# EAGLE library part IF_MK20DX128VFM5 (library mbed-HDK-MF-NXP)
CMSIS-DAP Interface : 32-bit K20 ARM Cortex M4 RISC 128KB Flash 1.8V/2.5V/3.3V 32-Pin QFN
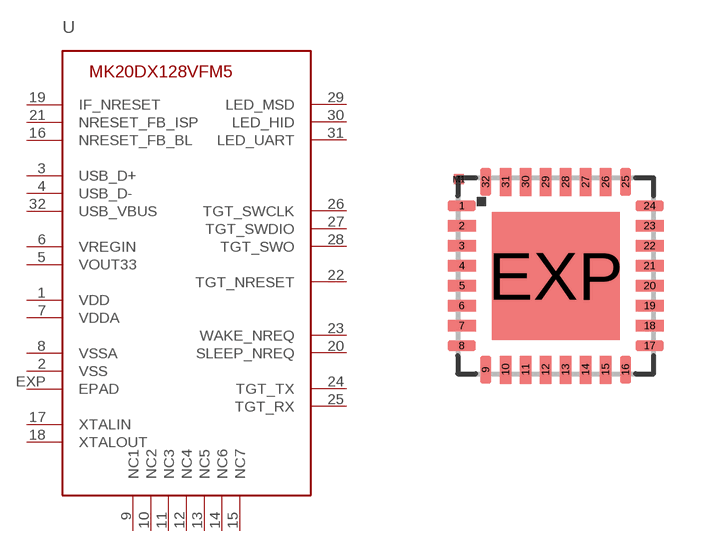
[diagram p10: symbol with the pads of HVQFN33; footprint HVQFN33]

Designator prefix U

## IF_MK20DX128VFM5 (MF: NXP; MFN: MK20DX128VFM5; OC-DIGIKEY: MK20DX128VFM5-ND; OC-MOUSER: 841-MK20DX128VFM5; OC-NEWARK: 2133567)  [HVQFN33]
1  VDD
2  VSS
3  USB_D+
4  USB_D-
5  VOUT33
6  VREGIN
7  VDDA
8  VSSA
9  NC1
10  NC2
11  NC3
12  NC4
13  NC5
14  NC6
15  NC7
16  NRESET_FB_BL
17  XTALIN
18  XTALOUT
19  IF_NRESET
20  SLEEP_NREQ
21  NRESET_FB_ISP
22  TGT_NRESET
23  WAKE_NREQ
24  TGT_TX
25  TGT_RX
26  TGT_SWCLK
27  TGT_SWDIO
28  TGT_SWO
29  LED_MSD
30  LED_HID
31  LED_UART
32  USB_VBUS
EXP  EPAD

## Footprint HVQFN33 (pad centres in mm)
HVQFN32 (SOT617-3) 5 x 5 x .85 mm, Pitch 0.5mm Source: http://www.semiconductors.philips.com/acrobat_download/datasheets/TDA9885_TDA9886_2.pdf
smd 0.7 x 0.28: 1 -2.35,1.75; 2 -2.35,1.25; 3 -2.35,0.75; 4 -2.35,0.25; 5 -2.35,-0.25; 6 -2.35,-0.75; 7 -2.35,-1.25; 8 -2.35,-1.75; 17 2.35,-1.75; 18 2.35,-1.25; 19 2.35,-0.75; 20 2.35,-0.25; 21 2.35,0.25; 22 2.35,0.75; 23 2.35,1.25; 24 2.35,1.75
smd 0.28 x 0.7: 9 -1.75,-2.35; 10 -1.25,-2.35; 11 -0.75,-2.35; 12 -0.25,-2.35; 13 0.25,-2.35; 14 0.75,-2.35; 15 1.25,-2.35; 16 1.75,-2.35; 25 1.75,2.35; 26 1.25,2.35; 27 0.75,2.35; 28 0.25,2.35; 29 -0.25,2.35; 30 -0.75,2.35; 31 -1.25,2.35; 32 -1.75,2.35
smd 3.2 x 3.2: EXP 0,0
smd 0.25 x 0.25: M1 -2.415,2.415